# Altium integrated library multisupport.IntLib: 35 symbols
Pins are listed as number, name and electrical type; pins without a type are passive.

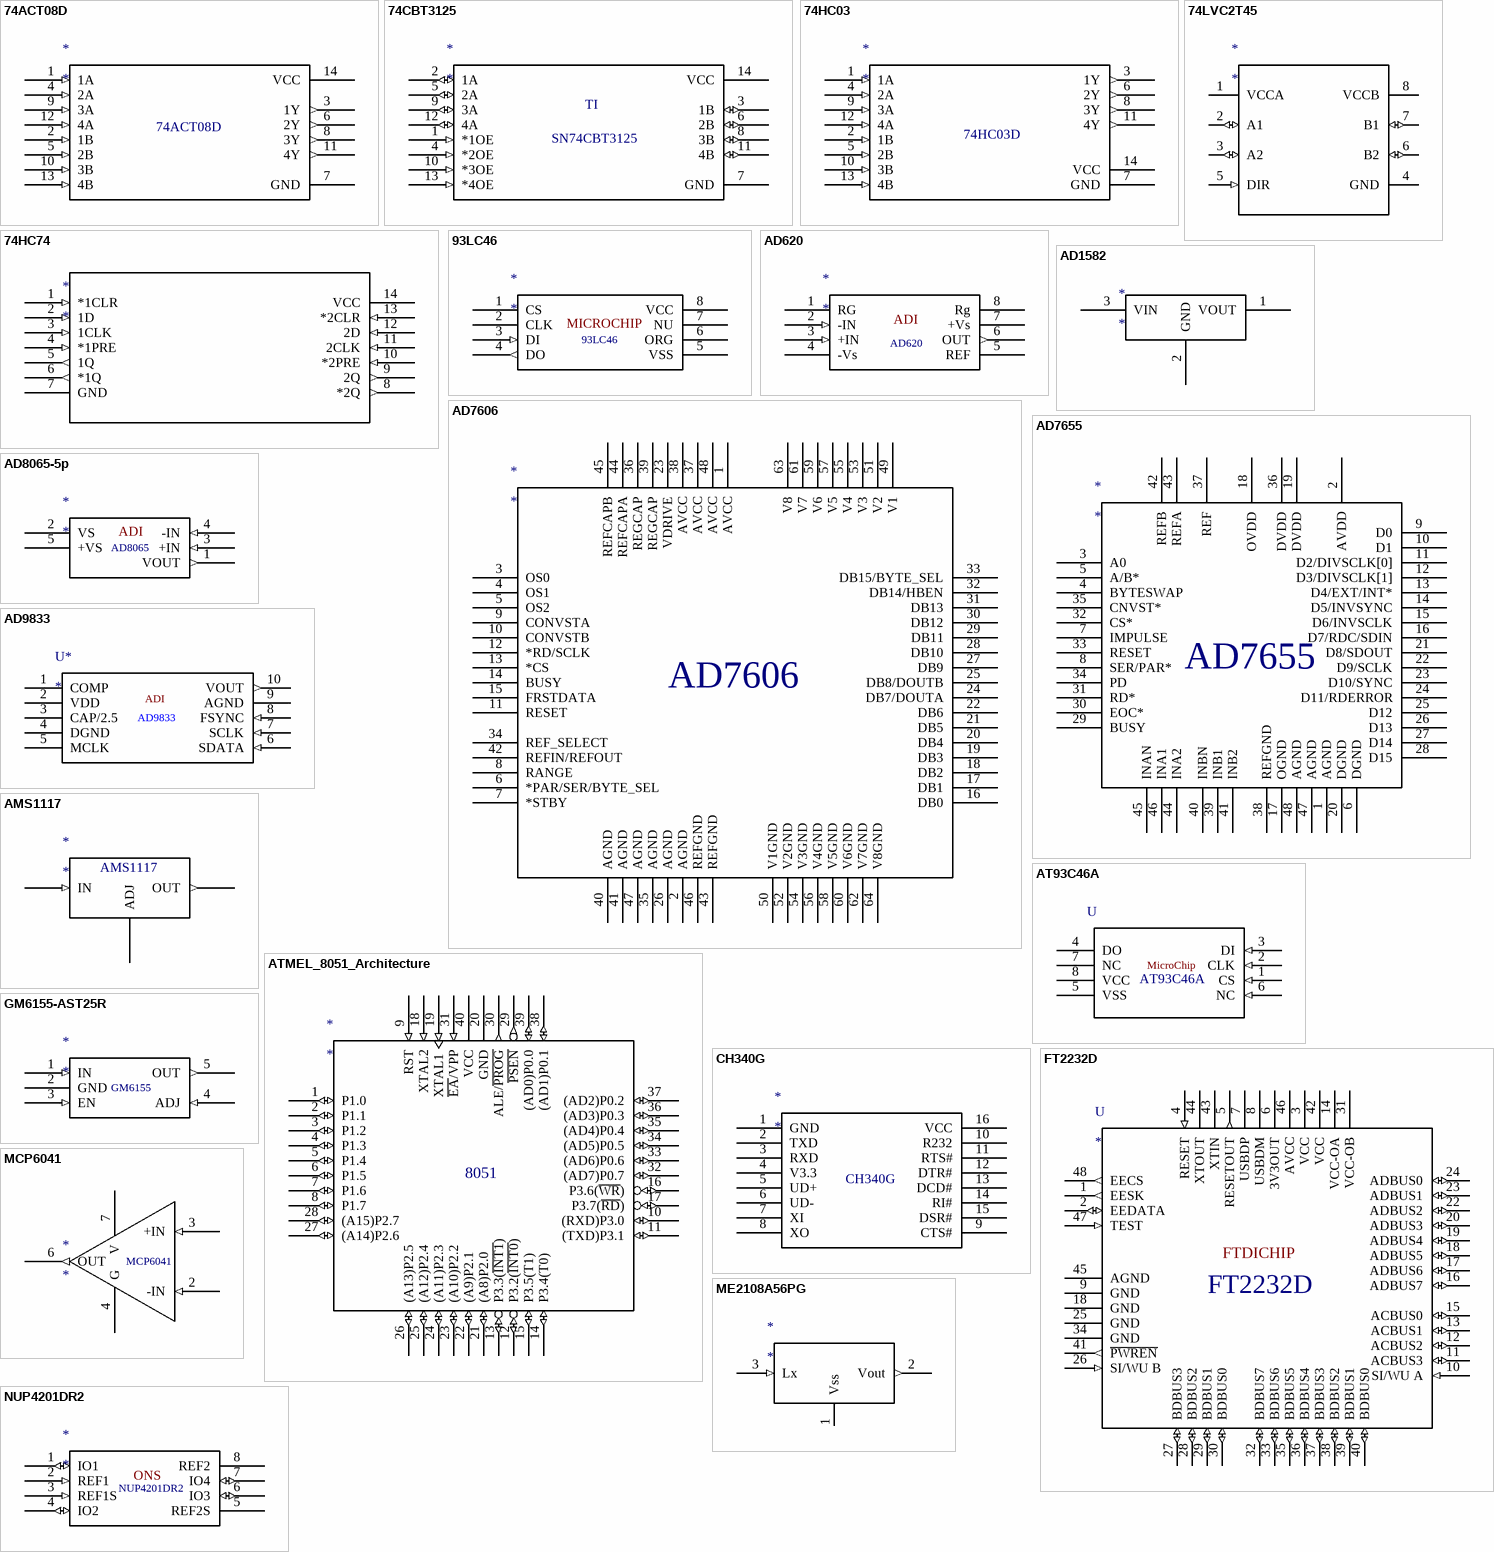
[diagram p0: symbols 74ACT08D to NUP4201DR2]

## 74ACT08D
designator *
footprint SOIC-14_74ACT08D
pins: 1 1A (in), 2 1B (in), 3 1Y (out), 4 2A (in), 5 2B (in), 6 2Y (out), 7 GND (power), 8 3Y (out), 9 3A (in), 10 3B (in), 11 4Y (out), 12 4A (in), 13 4B (in), 14 VCC (power)

## 74CBT3125
designator *
footprint SOIC-14_74cnt3125
pins: 1 *1OE (in), 2 1A (io), 3 1B (io), 4 *2OE (in), 5 2A (io), 6 2B (io), 7 GND (power), 8 3B (io), 9 3A (io), 10 *3OE (in), 11 4B (io), 12 4A (io), 13 *4OE (in), 14 VCC (power)
text: TI; SN74CBT3125

## 74HC03
designator *
footprint SOIC-14_74HC03
pins: 1 1A (in), 2 1B (in), 3 1Y (out), 4 2A (in), 5 2B (in), 6 2Y (out), 7 GND (power), 8 3Y (out), 9 3A (in), 10 3B (in), 11 4Y (out), 12 4A (in), 13 4B (in), 14 VCC (power)
text: 74HC03D

## 74HC74
designator *
footprint SOIC-14_74HC74
pins: 1 *1CLR (in), 2 1D (in), 3 1CLK (in), 4 *1PRE (in), 5 1Q (out), 6 *1Q (out), 7 GND (power), 8 *2Q (out), 9 2Q (out), 10 *2PRE (in), 11 2CLK (in), 12 2D (in), 13 *2CLR (in), 14 VCC (power)

## 74LVC2T45
designator *
footprint SSOP-8_74LVC2T45
pins: 1 VCCA (power), 2 A1 (io), 3 A2 (io), 4 GND (power), 5 DIR (in), 6 B2 (io), 7 B1 (io), 8 VCCB (power)

## 93LC46
designator *
footprint 93LC46-SOIC-8 (SOIC, 8-Leads, Body 4.90x3.85mm, Pitch 1.27mm, IPC Low Density)
pins: 1 CS, 2 CLK, 3 DI (in), 4 DO (out), 5 VSS (power), 6 ORG, 7 NU, 8 VCC (power)
text: MICROCHIP

## AD620
designator *
footprint AD620_DIP
pins: 1 RG, 2 -IN (in), 3 +IN (in), 4 -Vs (power), 5 REF, 6 OUT (out), 7 +Vs, 8 Rg
text: ADI

## AD1582
designator *
pins: 1 VOUT, 2 GND, 3 VIN

## AD7606
designator *
footprint AD7606
pins: 1 AVCC, 2 AGND, 3 OS0, 4 OS1, 5 OS2, 6 *PAR/SER/BYTE_SEL, 7 *STBY, 8 RANGE, 9 CONVSTA, 10 CONVSTB, 11 RESET, 12 *RD/SCLK, 13 *CS, 14 BUSY, 15 FRSTDATA, 16 DB0, 17 DB1, 18 DB2, 19 DB3, 20 DB4, 21 DB5, 22 DB6, 23 VDRIVE, 24 DB7/DOUTA, 25 DB8/DOUTB, 26 AGND, 27 DB9, 28 DB10, 29 DB11, 30 DB12, 31 DB13, 32 DB14/HBEN, 33 DB15/BYTE_SEL, 34 REF_SELECT, 35 AGND, 36 REGCAP, 37 AVCC, 38 AVCC, 39 REGCAP, 40 AGND, 41 AGND, 42 REFIN/REFOUT, 43 REFGND, 44 REFCAPA, 45 REFCAPB, 46 REFGND, 47 AGND, 48 AVCC, 49 V1, 50 V1GND, 51 V2, 52 V2GND, 53 V3, 54 V3GND, 55 V4, 56 V4GND, 57 V5, 58 V5GND, 59 V6, 60 V6GND, 61 V7, 62 V7GND, 63 V8, 64 V8GND

## AD7655
designator *
footprint AD7655ASTZ
pins: 1 AGND, 2 AVDD (power), 3 A0, 4 BYTESWAP, 5 A/B*, 6 DGND, 7 IMPULSE, 8 SER/PAR*, 9 D0, 10 D1, 11 D2/DIVSCLK[0], 12 D3/DIVSCLK[1], 13 D4/EXT/INT*, 14 D5/INVSYNC, 15 D6/INVSCLK, 16 D7/RDC/SDIN, 17 OGND, 18 OVDD (power), 19 DVDD (power), 20 DGND, 21 D8/SDOUT, 22 D9/SCLK, 23 D10/SYNC, 24 D11/RDERROR, 25 D12, 26 D13, 27 D14, 28 D15, 29 BUSY, 30 EOC*, 31 RD*, 32 CS*, 33 RESET, 34 PD, 35 CNVST*, 36 DVDD (power), 37 REF, 38 REFGND, 39 INB1, 40 INBN, 41 INB2, 42 REFB, 43 REFA, 44 INA2, 45 INAN, 46 INA1, 47 AGND, 48 AGND

## AD8065-5p
designator *
footprint AD8065-5_SOT95P290X145-5N (SOT23, 5-Leads, Body 3.00x2.90mm, Pitch 0.95mm, IPC Medium Density)
pins: 1 VOUT (out), 2 VS (power), 3 +IN (in), 4 -IN (in), 5 +VS (power)
text: ADI; AD8065

## AD9833
designator U*
footprint AD9833_TSSOP50P500X110-10M (TSSOP, 10-Leads, Body 3.05x3.05mm, Pitch 0.50mm, IPC Low Density)
pins: 1 COMP, 2 VDD (power), 3 CAP/2.5, 4 DGND (power), 5 MCLK, 6 SDATA (in), 7 SCLK (in), 8 FSYNC (in), 9 AGND (power), 10 VOUT (out)
text: ADI

## AMS1117
designator *
footprint SOT230P700X180-4N (SOT223, 4-Leads, Body 6.50x7.00mm (avg), Pitch 2.30mm, IPC Medium Density)
pins: 1 ADJ (power), 2 OUT (out), 3 IN (in)

## AT93C46A
designator U  (value not drawn)
footprint 93C46A-SOIC127P600X135-8N
pins: 1 CS (in), 2 CLK (in), 3 DI (in), 4 DO, 5 VSS (power), 6 NC (in), 7 NC, 8 VCC (power)
text: MicroChip

## ATMEL_8051_Architecture
designator *
footprint C51_LQFP
pins: 1 P1.0 (io), 2 P1.1 (io), 3 P1.2 (io), 4 P1.3 (io), 5 P1.4 (io), 6 P1.5 (io), 7 P1.6 (io), 8 P1.7 (io), 9 RST (in), 10 (RXD)P3.0 (io), 11 (TXD)P3.1 (io), 12 P3.2(~{INT0}) (io), 13 P3.3(~{INT1}) (io), 14 P3.4(T0) (io), 15 P3.5(T1) (io), 16 P3.6(~{WR}) (io), 17 P3.7(~{RD}) (io), 18 XTAL2 (in), 19 XTAL1 (in), 20 GND (power), 21 (A8)P2.0 (io), 22 (A9)P2.1 (io), 23 (A10)P2.2 (io), 24 (A11)P2.3 (io), 25 (A12)P2.4 (io), 26 (A13)P2.5 (io), 27 (A14)P2.6 (io), 28 (A15)P2.7 (io), 29 ~{PSEN} (out), 30 ALE/~{PROG} (out), 31 ~{EA}/VPP (in), 32 (AD7)P0.7 (io), 33 (AD6)P0.6 (io), 34 (AD5)P0.5 (io), 35 (AD4)P0.4 (io), 36 (AD3)P0.3 (io), 37 (AD2)P0.2 (io), 38 (AD1)P0.1 (io), 39 (AD0)P0.0 (io), 40 VCC (power)
text: 8051

## CH340G
designator *
footprint CH340G
pins: 1 GND, 2 TXD, 3 RXD, 4 V3.3, 5 UD+, 6 UD-, 7 XI, 8 XO, 9 CTS#, 10 R232, 11 RTS#, 12 DTR#, 13 DCD#, 14 RI#, 15 DSR#, 16 VCC

## FT2232D
designator U
footprint LQFP48
pins: 1 EESK (out), 2 EEDATA (io), 3 VCC (power), 4 RESET (in), 5 RESETOUT (out), 6 3V3OUT (power), 7 USBDP, 8 USBDM, 9 GND (power), 10 SI/WU A (in), 11 ACBUS3 (io), 12 ACBUS2 (io), 13 ACBUS1 (io), 14 VCC-OA (power), 15 ACBUS0 (io), 16 ADBUS7 (io), 17 ADBUS6 (io), 18 ADBUS5 (io), 18 GND (power), 19 ADBUS4 (io), 20 ADBUS3 (io), 22 ADBUS2 (io), 23 ADBUS1 (io), 24 ADBUS0 (io), 25 GND (power), 26 SI/WU B (in), 27 BDBUS3 (io), 28 BDBUS2 (io), 29 BDBUS1 (io), 30 BDBUS0 (io), 31 VCC-OB (power), 32 BDBUS7 (io), 33 BDBUS6 (io), 34 GND (power), 35 BDBUS5 (io), 36 BDBUS4 (io), 37 BDBUS3 (io), 38 BDBUS2 (io), 39 BDBUS1 (io), 40 BDBUS0 (io), 41 ~{PWREN} (out), 42 VCC (power), 43 XTIN, 44 XTOUT, 45 AGND (power), 46 AVCC (power), 47 TEST (in), 48 EECS (out)
text: FTDICHIP

## GM6155-AST25R
designator *
footprint GM6155_SOT95P290X120-5N (SOT23, 5-Leads, Body 2.85x2.90mm, Pitch 0.95mm, IPC Medium Density)
pins: 1 IN (in), 2 GND (power), 3 EN (in), 4 ADJ (in), 5 OUT (out)
text: GM6155

## MCP6041
designator *
footprint 93LC46-SOIC-8 (SOIC, 8-Leads, Body 4.90x3.85mm, Pitch 1.27mm, IPC Low Density)
pins: 2 -IN (in), 3 +IN (in), 4 G (power), 6 OUT (out), 7 V

## ME2108A56PG
designator *
footprint ME2108A_SOT89-3-150P409X160-
pins: 1 Vss (power), 2 Vout (out) "Output Voltage monitor.", 3 Lx (in) "Switch"

## NUP4201DR2
designator *
footprint 93LC46-SOIC-8 (SOIC, 8-Leads, Body 4.90x3.85mm, Pitch 1.27mm, IPC Low Density)
pins: 1 IO1 (io), 2 REF1 (in), 3 REF1S (in), 4 IO2 (io), 5 REF2S, 6 IO3 (io), 7 IO4 (io), 8 REF2
text: ONS

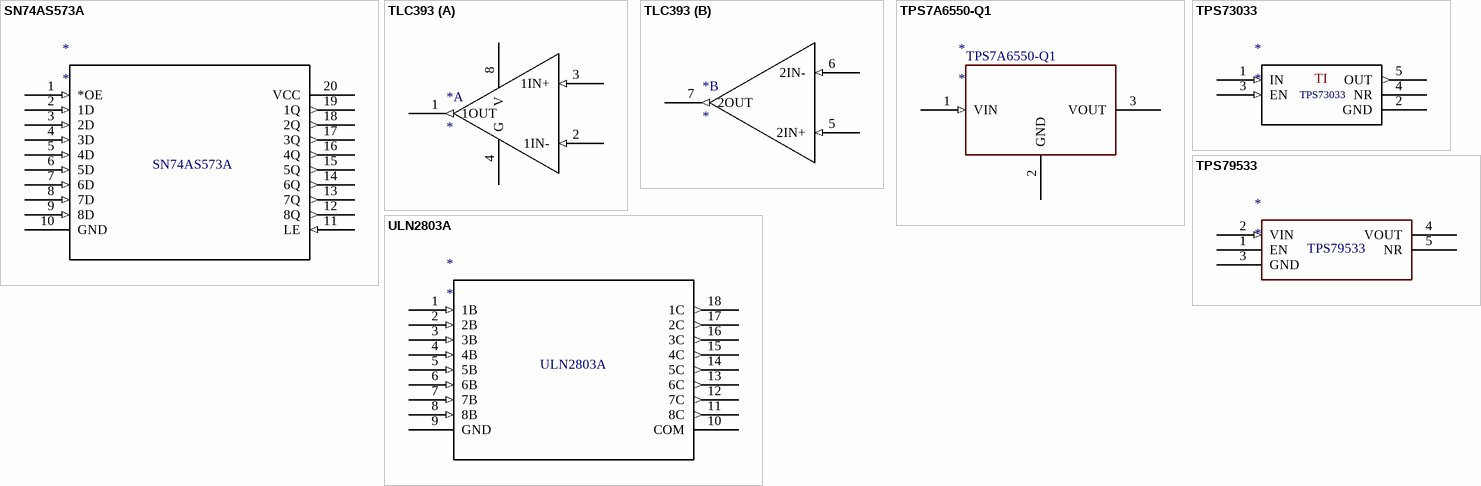
[diagram p1: symbols SN74AS573A to ULN2803A]

## SN74AS573A
designator *
footprint SN74LS573A
pins: 1 *OE (in), 2 1D (in), 3 2D (in), 4 3D (in), 5 4D (in), 6 5D (in), 7 6D (in), 8 7D (in), 9 8D (in), 10 GND (power), 11 LE (in), 12 8Q (out), 13 7Q (out), 14 6Q (out), 15 5Q (out), 16 4Q (out), 17 3Q (out), 18 2Q (out), 19 1Q (out), 20 VCC (power)

## TLC393
designator *
footprint SOIC-8_TLC393
part A pins: 1 1OUT (out), 2 1IN- (in), 3 1IN+ (in), 4 G (power), 8 V (power)
part B pins: 5 2IN+ (in), 6 2IN- (in), 7 2OUT (out)

## TPS7A6550-Q1
designator *
footprint TPS7A6550
pins: 1 VIN (in), 2 GND (power), 3 VOUT (power)

## TPS73033
designator *
footprint SOT953-TPS73033
pins: 1 IN (in), 2 GND (power), 3 EN (in), 4 NR, 5 OUT (out)
text: TI

## TPS79533
designator *
footprint SOT127P706X180-6N_TPS79533
pins: 1 EN, 2 VIN (in), 3 GND (power), 4 VOUT (power), 5 NR

## ULN2803A
designator *
footprint ULN2803A
pins: 1 1B (in), 2 2B (in), 3 3B (in), 4 4B (in), 5 5B (in), 6 6B (in), 7 7B (in), 8 8B (in), 9 GND (power), 10 COM, 11 8C (out), 12 7C (out), 13 6C (out), 14 5C (out), 15 4C (out), 16 3C (out), 17 2C (out), 18 1C (out)


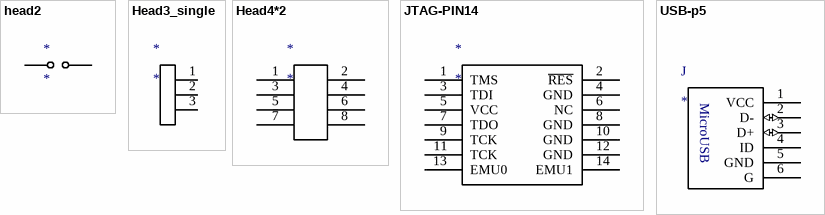
[diagram p2: symbols head2 to USB-p5]

## head2
designator *
footprint HDR1X2
pins: 1 Vss (power), 2 Vss

## Head3_single
designator *
footprint MHDR1X3
pins: 1, 2, 3

## Head4*2
designator *
footprint HDR2X4_CEN
footprint HDR2X4
pins: 1, 2, 3, 4, 5 VCC, 6 9, 7 TDO, 8 GND

## JTAG-PIN14
designator *
pins: 1 TMS, 2 ~{RES}, 3 TDI, 4 GND, 5 VCC, 6 NC, 7 TDO, 8 GND, 9 TCK, 10 GND, 11 TCK, 12 GND, 13 EMU0, 14 EMU1

## USB-p5
designator J
footprint USB_SMD_2.5-6H4_M - duplicate (MicroUSB)
pins: 1 VCC (power), 2 D- (io), 3 D+ (io), 4 ID, 5 GND (power), 6 G
text: MicroUSB


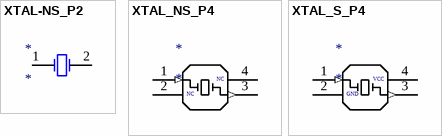
[diagram p3: symbols XTAL-NS_P2 to XTAL_S_P4]

## XTAL-NS_P2
designator *
pins: 1, 2

## XTAL_NS_P4
designator *
footprint SMD_XTAL4P_3225 (XTAL-4Pin)
pins: 1 (in), 2, 3 (out), 4
text: NC

## XTAL_S_P4
designator *
pins: 1 (in), 2 GND (power), 3 (out), 4 VCC (power)